# Altium integrated library DevBoard.IntLib: 18 symbols
Pins are listed as number, name and electrical type; pins without a type are passive.

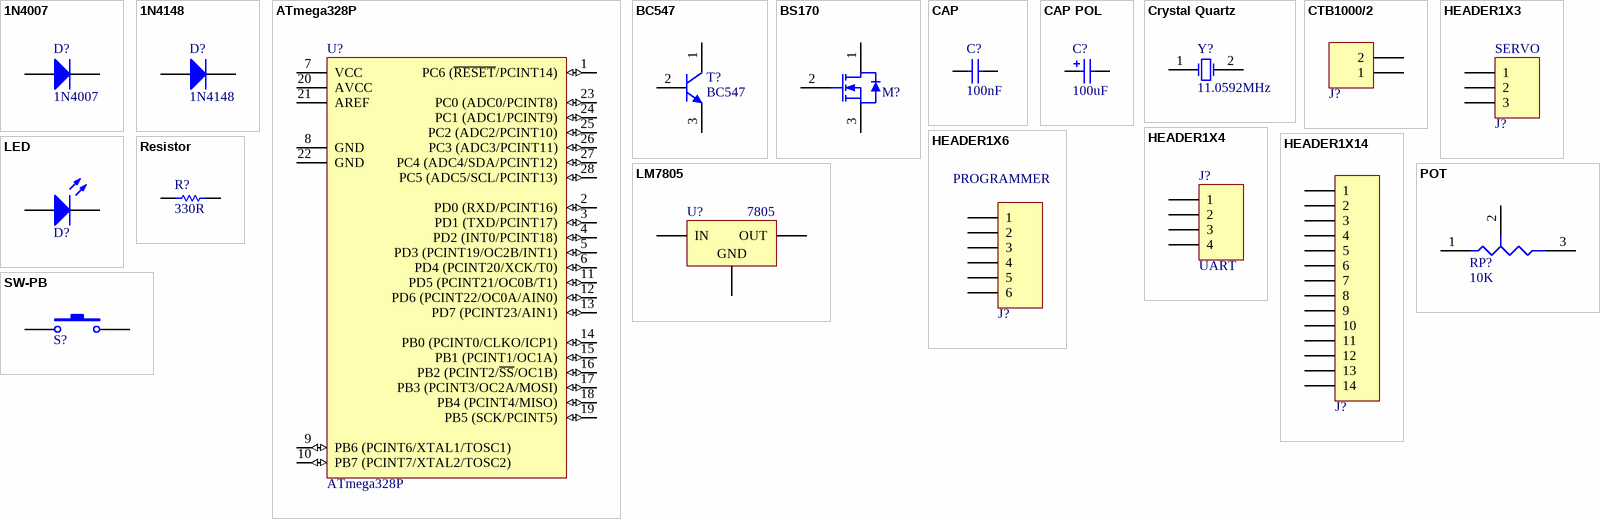
[diagram p0: symbols 1N4007 to SW-PB]

## 1N4007
designator D?
Rectifier, 1A, 1000V
footprint DO-41
pins: 1 A, 2 K

## 1N4148
designator D?
High Conductance Fast Diode
footprint DO-35
pins: 1 A, 2 K

## ATmega328P
designator U?
8-bit Atmel Microcontroller with 32KB In-System Programmable Flash
footprint 28P3
pins: 1 PC6 (~{RESET}/PCINT14) (io), 2 PD0 (RXD/PCINT16) (io), 3 PD1 (TXD/PCINT17) (io), 4 PD2 (INT0/PCINT18) (io), 5 PD3 (PCINT19/OC2B/INT1) (io), 6 PD4 (PCINT20/XCK/T0) (io), 7 VCC (power), 8 GND (power), 9 PB6 (PCINT6/XTAL1/TOSC1) (io), 10 PB7 (PCINT7/XTAL2/TOSC2) (io), 11 PD5 (PCINT21/OC0B/T1) (io), 12 PD6 (PCINT22/OC0A/AIN0) (io), 13 PD7 (PCINT23/AIN1) (io), 14 PB0 (PCINT0/CLKO/ICP1) (io), 15 PB1 (PCINT1/OC1A) (io), 16 PB2 (PCINT2/~{SS}/OC1B) (io), 17 PB3 (PCINT3/OC2A/MOSI) (io), 18 PB4 (PCINT4/MISO) (io), 19 PB5 (SCK/PCINT5) (io), 20 AVCC (power), 21 AREF, 22 GND (power), 23 PC0 (ADC0/PCINT8) (io), 24 PC1 (ADC1/PCINT9) (io), 25 PC2 (ADC2/PCINT10) (io), 26 PC3 (ADC3/PCINT11) (io), 27 PC4 (ADC4/SDA/PCINT12) (io), 28 PC5 (ADC5/SCL/PCINT13) (io)

## BC547
designator T?
NPN Epitaxial Silicon Transistor
footprint TO-92
pins: 1 C, 2 B, 3 E

## BS170
designator M?  (value not drawn)
N-Channel MOSFET
footprint TO-92
pins: 1 D, 2 G, 3 S

## CAP
designator C?, comment 100nF
Ceramic Capacitor; Value: 100nF
footprint RAD-0.1 (Capacitor, 100mil)
pins: 1, 2

## CAP POL
designator C?, comment 100uF
Electrolytic Capacitor; Voltage Rating: 35V; Value: 100uF
footprint CAP3.5mmX8mm
pins: 1, 2

## Crystal Quartz
designator Y?, comment 11.0592MHz
Resonator: quartz; Value: 11.0592MHz
footprint SMD HC49SM
footprint TH HC-49S
footprint TH HC-49U
pins: 1 OSC1, 2 OSC2

## CTB1000/2
designator J?  (value not drawn)
CTB1000/2, PCB TERMINAL BLOCK, 5MM, 2WAY; Manufacturer: CAMDENBOSS; Implementation: Yes; Ordering code: CN19745; Value: clamp  2pin; Datasheet: http://www.farnell.com/datasheets/1870880.pdf; Distributor: Farnell; Manufacturer code: CTB1000/2
footprint CTB1000/2
footprint CTB1000/2
pins: 1, 2

## HEADER1X3
designator J?, comment SERVO
Header, 3-Pin, 1-row
footprint HEADER1X3
pins: 1, 2, 3

## HEADER1X4
designator J?, comment UART
Header, 4-Pin, 1-row
footprint HEADER1X4
pins: 1, 2, 3, 4

## HEADER1X6
designator J?, comment PROGRAMMER
Header, 6-Pin, 1-row
footprint HEADER1X6 (Connector; Header; 6 Position)
pins: 1, 2, 3, 4, 5, 6

## HEADER1X14
designator J?  (value not drawn)
Header, 14-pin, 1-row
footprint HEADER1X14
pins: 1, 2, 3, 4, 5, 6, 7, 8, 9, 10, 11, 12, 13, 14

## LED
designator D?, comment Power ON  (value not drawn)
LED
footprint LED3mmRED
footprint LED3MMGREEN
footprint LED3MMYELLOW
pins: 1 A, 2 K

## LM7805
designator U?, comment 7805
Positive Voltage Regulator, 5V, 1A, TO-220
footprint TO-220L (TO, Thru-Hole, Vertical, Heatsink Mounted; 3 In-Line Leads; Pitch 2.54 mm)
pins: 1 IN, 2 GND, 3 OUT

## POT
designator RP?, comment 10K
Potentiometer; Value: 10K
footprint HPOT
pins: 1, 2, 3

## Resistor
designator R?, comment 330R
Power Rating: 1/4W; Value: 330R
footprint AXIAL-0.3 (Resistor, 0.25W, Axial, 300mil)
footprint AXIAL-0.4 (Resistor, 0.25W, Axial, 400mil)
footprint STAND-0.1 (Resistor, 0.25W, Stand, 100mil)
pins: 1, 2

## SW-PB
designator S?  (value not drawn)
Pushbutton
footprint MICROPUSHBUTTON
pins: 1, 2